# Altium schematic symbol library SCH - POWER - LINEAR VREG - TI UCC281-ADJ_D_8.SchLib: 1 symbol
Pins are listed as number, name and electrical type; pins without a type are passive.

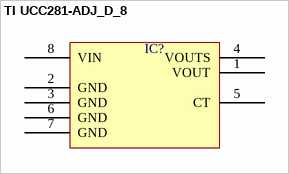
[diagram p0: symbol TI UCC281-ADJ_D_8]

## TI UCC281-ADJ_D_8
designator IC?  (value not drawn)
pins: 1 VOUT, 2 GND, 3 GND, 4 VOUTS, 5 CT, 6 GND, 7 GND, 8 VIN